# Altium footprint library 小型针式拔动开关.PcbLib: 1 footprints
Each footprint in its own frame and in the unit in brackets; x right, y up, seen from the top. Pads: shape width x height; smd on the part's side, far side on the other; paste and mask are expansions set on the pad; w line width, h text height; cw(c..) or ccw(c..) is an arc to the next point about the centre after c.
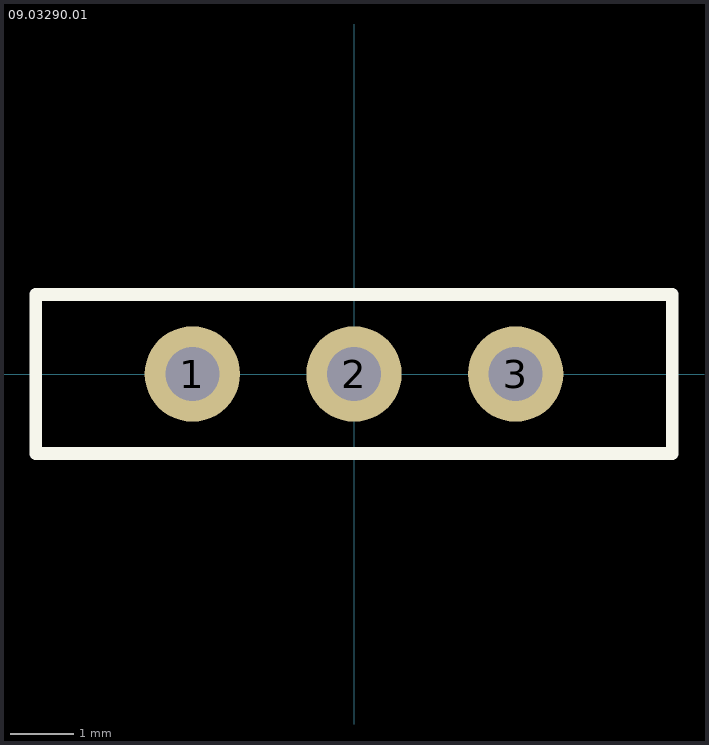
[diagram p0: the footprint, top view; thin cyan lines are the x and y axes]

## 09.03290.01 [mm] "1K2 09.03290.01小型拔动开关"
height 7.4
pads (3):
  round 1.5 hole 0.85: 1(-2.54,0) 2(0,0) 3(2.54,0)
Top Overlay:
  lines w0.2: -5,-1.25 -5,1.25 5,1.25 5,-1.25 -5,-1.25
Mechanical 13:
  lines w0.05: -5,-1.25 5,-1.25 5,1.25 -5,1.25 -5,-1.25
3D body: height 7.4, standoff -4.5, extent -5,-1.25 5,1.25